# EAGLE library part LTM8062EV (library DSDEagleLibrary)
The LTM8062/LTM8062A are complete 32VIN, 2A μModule® (power module) power tracking battery chargers. The LTM8062/ LTM8062A provide a constant-current/constant-voltage charge characteristic, a 2A maximum charge current, and employ a 3.3V float voltage feedback reference, so any desired battery float voltage up to 14.4V for the LTM8062 and up to 18.8V for the LTM8062A can be programmed with a resistor divider. The LTM8062/LTM8062A employ an input voltage regulation loop, which reduces charge current if the input voltage falls below a programmed level, set with a resistor divider. When the LTM8062/LTM8062A are powered by a solar panel, this input regulation loop is used to maintain the panel at peak output power. The LTM8062/LTM8062A also feature preconditioning trickle charge, bad battery detection, a choice of termination schemes and automatic restart. The LTM8062/LTM8062A are packaged in a thermally enhanced, compact (9mm × 15mm × 4.32mm) over-molded land grid array (LGA) package suitable for automated assembly by standard surface mount equipment. The LTM8062/LTM8062A are RoHS compliant. Applications Industrial Handheld Instruments 12V to 24V Automotive and Heavy Equipment Desktop Cradle Chargers Solar Power Battery Charging Complete Battery Charger System Input Supply Voltage Regulation Loop for Peak Power Tracking in MPPT (Maximum Peak Power Tracking) Solar Applications Resistor Programmable Float Voltage Up to 14.4V on the LTM8062 and 18.8V on the LTM8062A Wide Input Voltage Range: 4.95V to 32V (40V Abs Max) 2A Charge Current Accommodates Li-Ion/Polymer, LiFePO4, SLA Integrated Input Reverse Voltage Protection User Selectable Termination: C/10 or Termination Timer 0.75% Float Voltage Reference Accuracy 9mm × 15mm × 4.32mm LGA Package
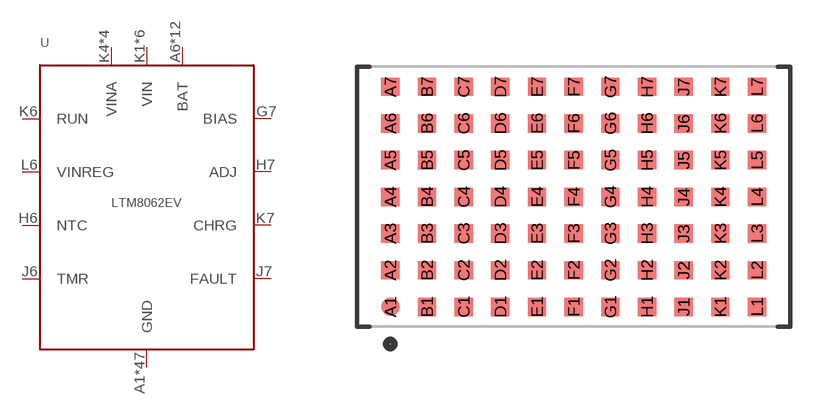
[diagram p69: symbol with the pads of LINEAR_TECHNOLOGY_LTM8062IV#PBF_0; footprint LINEAR_TECHNOLOGY_LTM8062IV#PBF_0]

Designator prefix -

## LTM8062EV  [LINEAR_TECHNOLOGY_LTM8062IV#PBF_0]
A1  GND
A2  GND
A3  GND
A4  GND
A5  GND
A6  BAT
A7  BAT
B1  GND
B2  GND
B3  GND
B4  GND
B5  GND
B6  BAT
B7  BAT
C1  GND
C2  GND
C3  GND
C4  GND
C5  GND
C6  BAT
C7  BAT
D1  GND
D2  GND
D3  GND
D4  GND
D5  GND
D6  BAT
D7  BAT
E1  GND
E2  GND
E3  GND
E4  GND
E5  GND
E6  BAT
E7  BAT
F1  GND
F2  GND
F3  GND
F4  GND
F5  GND
F6  BAT
F7  BAT
G1  GND
G2  GND
G3  GND
G4  GND
G5  GND
G6  GND
G7  BIAS
H1  GND
H2  GND
H3  GND
H4  GND
H5  GND
H6  NTC
H7  ADJ
J1  GND
J2  GND
J3  GND
J4  GND
J5  GND
J6  TMR
J7  FAULT
K1  VIN
K2  VIN
K3  VIN
K4  VINA
K5  VINA
K6  RUN
K7  CHRG
L1  VIN
L2  VIN
L3  VIN
L4  VINA
L5  VINA
L6  VINREG
L7  GND

## Footprint LINEAR_TECHNOLOGY_LTM8062IV#PBF_0 (pad centres in mm)
LT-LTM8062-LGA-77
smd 0.635 x 0.635: A1 -6.35,-3.81; A2 -6.35,-2.54; A3 -6.35,-1.27; A4 -6.35,0; A5 -6.35,1.27; A6 -6.35,2.54; A7 -6.35,3.81; B1 -5.08,-3.81; B2 -5.08,-2.54; B3 -5.08,-1.27; B4 -5.08,0; B5 -5.08,1.27; B6 -5.08,2.54; B7 -5.08,3.81; C1 -3.81,-3.81; C2 -3.81,-2.54; C3 -3.81,-1.27; C4 -3.81,0; C5 -3.81,1.27; C6 -3.81,2.54; C7 -3.81,3.81; D1 -2.54,-3.81; D2 -2.54,-2.54; D3 -2.54,-1.27; D4 -2.54,0; D5 -2.54,1.27; D6 -2.54,2.54; D7 -2.54,3.81; E1 -1.27,-3.81; E2 -1.27,-2.54; E3 -1.27,-1.27; E4 -1.27,0; E5 -1.27,1.27; E6 -1.27,2.54; E7 -1.27,3.81; F1 0,-3.81; F2 0,-2.54; F3 0,-1.27; F4 0,0; F5 0,1.27; F6 0,2.54; F7 0,3.81; G1 1.27,-3.81; G2 1.27,-2.54; G3 1.27,-1.27; G4 1.27,0; G5 1.27,1.27; G6 1.27,2.54; G7 1.27,3.81; H1 2.54,-3.81; H2 2.54,-2.54; H3 2.54,-1.27; H4 2.54,0; H5 2.54,1.27; H6 2.54,2.54; H7 2.54,3.81; J1 3.81,-3.81; J2 3.81,-2.54; J3 3.81,-1.27; J4 3.81,0; J5 3.81,1.27; J6 3.81,2.54; J7 3.81,3.81; K1 5.08,-3.81; K2 5.08,-2.54; K3 5.08,-1.27; K4 5.08,0; K5 5.08,1.27; K6 5.08,2.54; K7 5.08,3.81; L1 6.35,-3.81; L2 6.35,-2.54; L3 6.35,-1.27; L4 6.35,0; L5 6.35,1.27; L6 6.35,2.54; L7 6.35,3.81